# Altium footprint library Digital.PcbLib: 2 footprints
Each footprint in its own frame and in the unit in brackets; x right, y up, seen from the top. Pads: shape width x height; smd on the part's side, far side on the other; paste and mask are expansions set on the pad; w line width, h text height; cw(c..) or ccw(c..) is an arc to the next point about the centre after c.
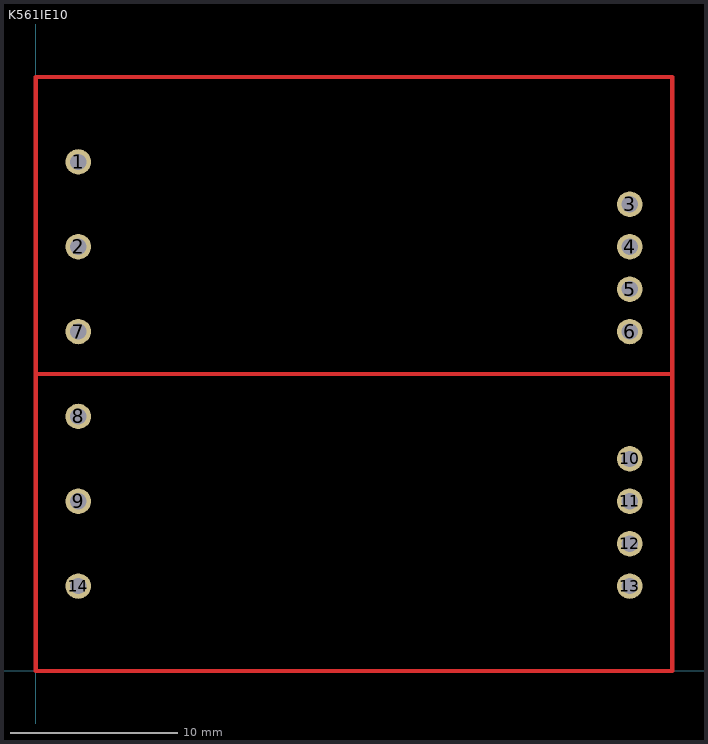
[diagram p0: the footprints below, top view; thin cyan lines are the x and y axes]

## K561IE10 [mil]
pads (14):
  round 60 hole 38: 1(100,1200) 2(100,1000) 3(1400,1100) 4(1400,1000) 5(1400,900) 6(1400,800) 7(100,800) 8(100,600) 9(100,400) 10(1400,500) 11(1400,400) 12(1400,300) 13(1400,200) 14(100,200)
Top Layer:
  lines w10: 0,700 1500,700 ; 0,0 1500,0 1500,1400 0,1400 0,0

## PCBComponent_1 [mil]